# Altium integrated library Power MOSFETs.IntLib: 5 symbols
Pins are listed as number, name and electrical type; pins without a type are passive.

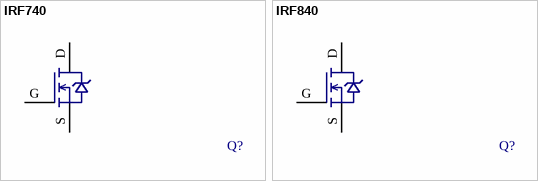
[diagram p0: symbols IRF740 to IRF840]

## IRF740
designator Q?  (value not drawn)
N-Channel 400V 10A (Tc) 125W (Tc) Through Hole TO-220AB; Manufacturer 1: Vishay Siliconix; Manufacturer 1 PN: IRF740PBF; ComponentLink1Description: Datasheet; ComponentLink1URL: http://www.vishay.com/docs/91054/91054.pdf; Digikey PN: IRF740PBF-ND; Current: 10A; Voltage: 400V
footprint IRF740 (N-Channel 400V 10A (Tc) 125W (Tc) Through Hole TO-220AB)
pins: D (power), G (power), S (power)

## IRF840
designator Q?  (value not drawn)
N-Channel 500V 8A (Tc) 125W (Tc) Through Hole TO-220AB; Manufacturer 1: Vishay Siliconix; Manufacturer 1 PN: IRF840APBF; Digikey PN: IRF840APBF-ND; Current: 8A; Voltage: 500V; ComponentLink1Description: Datasheet; ComponentLink1URL: http://www.vishay.com/docs/91065/91065.pdf
footprint IRF840 (N-Channel 500V 8A (Tc) 125W (Tc) Through Hole TO-220AB)
pins: D (power), G (power), S (power)


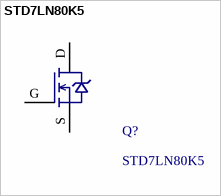
[diagram p1: symbol STD7LN80K5]

## STD7LN80K5
designator Q?
N-Channel 800V 5A (Tc) 85W (Tc) Surface Mount DPAK; Manufacturer 1: STMicroelectronics; ComponentLink1Description: Datasheet; ComponentLink1URL: https://www.st.com/content/ccc/resource/technical/document/datasheet/06/44/1d/7b/97/c4/4a/2a/DM00256349.pdf/files/DM00256349.pdf/jcr:content/translations/en.DM00256349.pdf; Digikey PN: 497-16491-1-ND; Manufacturer 1 PN: STD7LN80K5; Voltage: 800V; Current: 5A; Power: 85W
footprint STD7LN80K5 (N-Channel 800V 5A (Tc) 85W (Tc) Surface Mount DPAK)
pins: D (power), G (power), S (power)


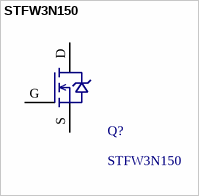
[diagram p2: symbol STFW3N150]

## STFW3N150
designator Q?
N-Channel 1500V 2.5A (Tc) 63W (Tc) Through Hole ISOWATT-218FX; Manufacturer 1: STMicroelectronics; ComponentLink1Description: Datasheet; ComponentLink1URL: https://www.st.com/content/ccc/resource/technical/document/datasheet/ee/c8/b0/29/66/7c/4e/fe/CD00149569.pdf/files/CD00149569.pdf/jcr:content/translations/en.CD00149569.pdf; Digikey PN: 497-10005-5-ND; Manufacturer 1 PN: STFW3N150; Voltage: 1500V; Current: 2.5A; Power: 63W
footprint STFW3N150 (N-Channel 1500V 2.5A (Tc) 63W (Tc) Through Hole ISOWATT-218FX)
pins: D (power), G (power), S (power)


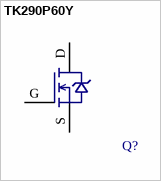
[diagram p3: symbol TK290P60Y]

## TK290P60Y
designator Q?  (value not drawn)
N-Channel 600V 11.5A (Tc) 100W (Tc) Surface Mount DPAK; Manufacturer 1: Toshiba Semiconductor and Storage; Manufacturer 1 PN: TK290P60Y,RQ; ComponentLink1Description: Datasheet; ComponentLink1URL: file:///C:/Users/Smarti9%20-%20Lucas/Downloads/TK290P60Y_datasheet_en_20161115%20(3).pdf; Digikey PN: TK290P60YRQCT-ND; Voltage: 600V; Current: 11.5A
footprint TK290P60Y (N-Channel 600V 11.5A (Tc) 100W (Tc) Surface Mount DPAK)
pins: D (power), G (power), S (power)